# Altium schematic symbol library Titan.SchLib: 58 symbols
Pins are listed as number, name and electrical type; pins without a type are passive.

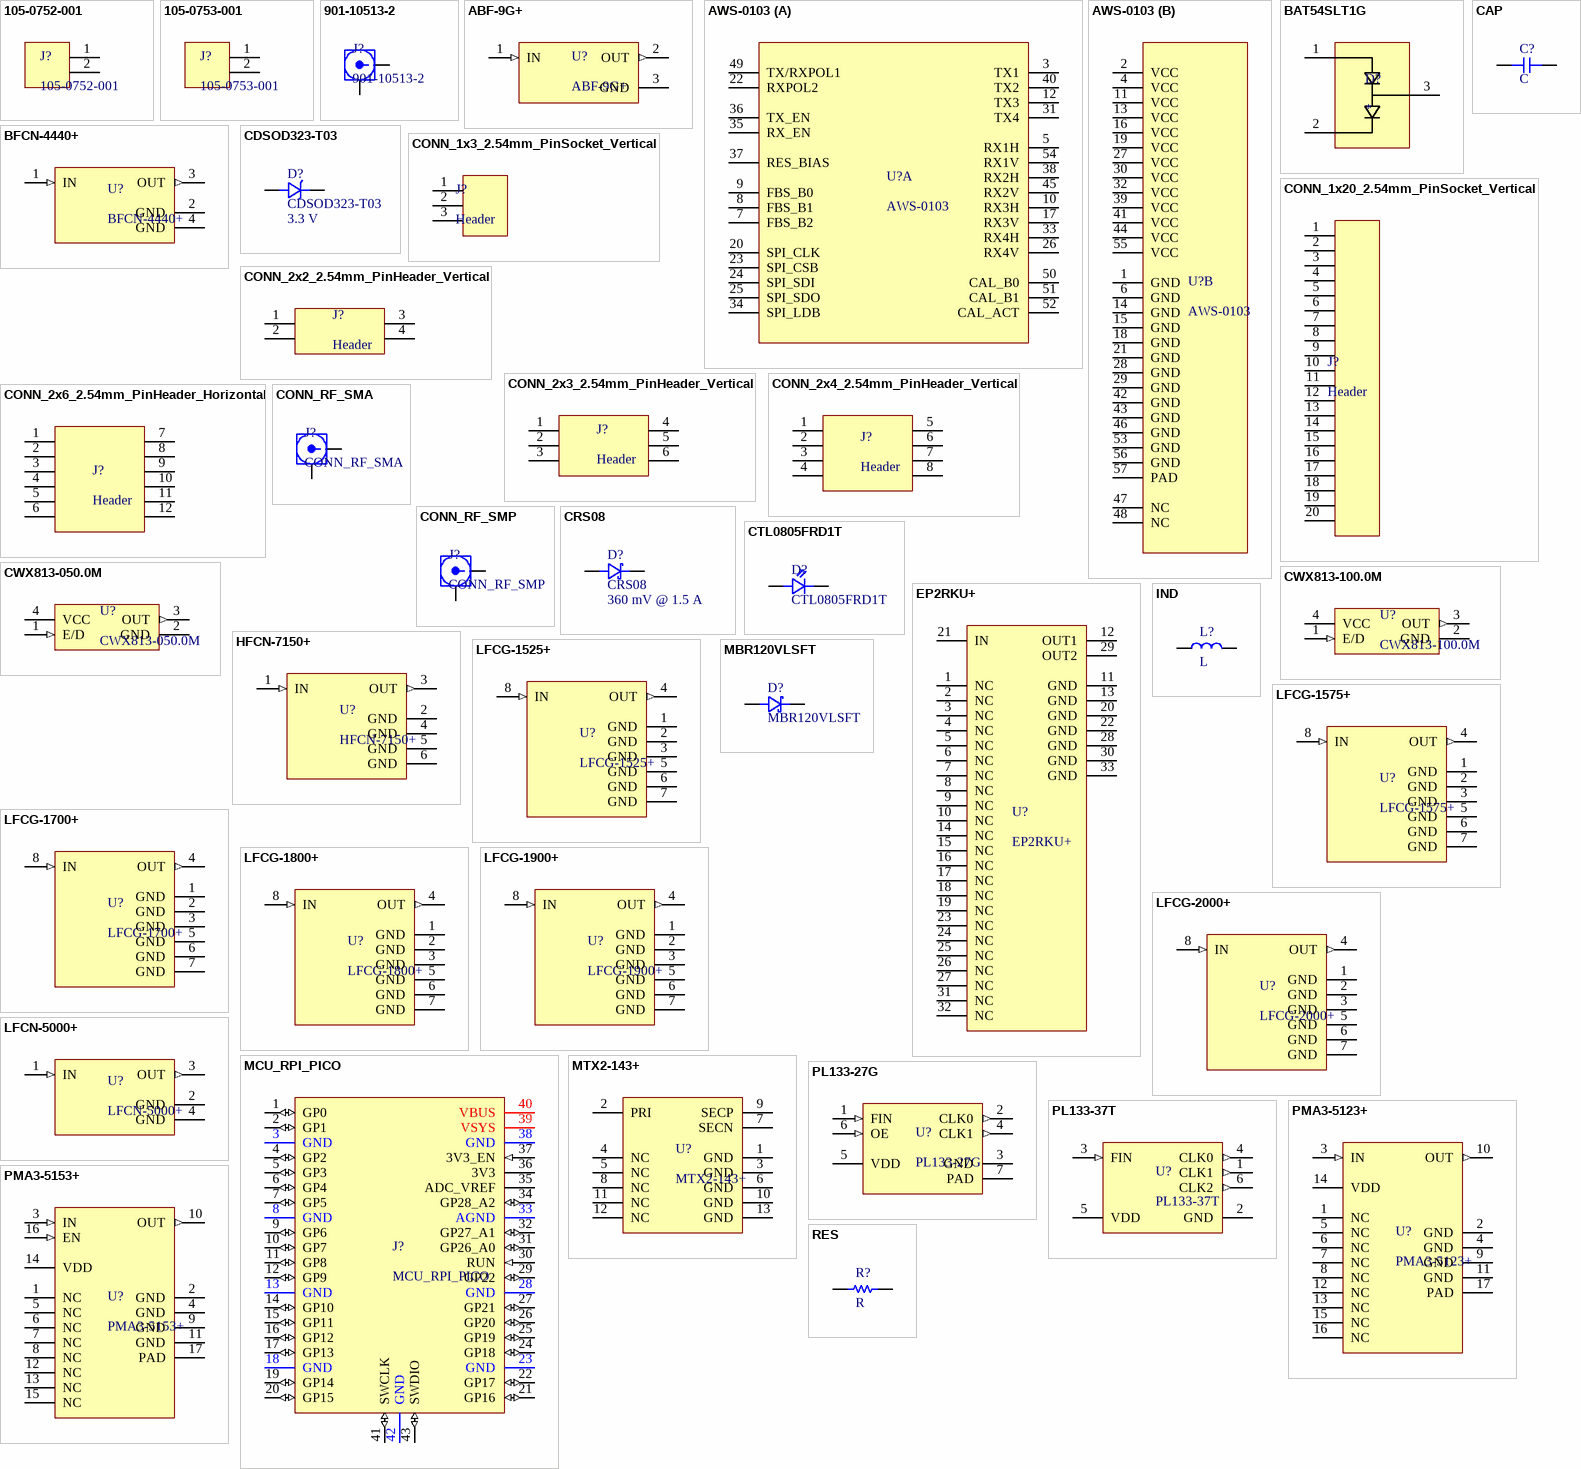
[diagram p0: symbols 105-0752-001 to RES]

## 105-0752-001
designator J?
Banana Jack Connector Standard Tip Solder Red; Manufacturer: Cinch Connectivity Solutions Johnson; Manufacturer Part Number: 105-0752-001
footprint CONN_BANANA_JACK (Banana Jack Connector Standard Tip Solder)
pins: 1 (power), 2 (power)

## 105-0753-001
designator J?
Banana Jack Connector Standard Tip Solder Black; Manufacturer: Cinch Connectivity Solutions Johnson; Manufacturer Part Number: 105-0753-001
footprint CONN_BANANA_JACK (Banana Jack Connector Standard Tip Solder)
pins: 1 (power), 2 (power)

## 901-10513-2
designator J?
SMA PCB End Launch Straight Jack 50 Ohm 0.062 High Frequency; Manufacturer: Amphenol; Maximum Frequency: 26.5 GHz; Manufacturer Part Number: 901-10513-2
footprint 901-10513-2 (SMA PCB End Launch Straight Jack 50 Ohm 0.062 High Frequency)
pins: 1, 2

## ABF-9G+
designator U?
9GHz Center Frequency Band Pass RF Filter (Radio Frequency) 1.6GHz Bandwidth 2.5dB 6-SMD, No Lead; Manufacturer: Mini-Circuits; Manufacturer Part Number: ABF-9G+
footprint PL-764
pins: 1 IN (in), 2 OUT (out), 3 GND (power)

## AWS-0103
designator U?
8.5 - 10.55 GHz X-Band Dual Rx Single Tx Beamformer; Manufacturer: Qorvo; Manufacturer Part Number: AWS-0103
footprint AWS-0103 (8.5 - 10.55 GHz X-Band Dual Rx Single Tx Beamformer)
part A pins: 3 TX1, 5 RX1H, 7 FBS_B2, 8 FBS_B1, 9 FBS_B0, 10 RX3H, 12 TX3, 17 RX3V, 20 SPI_CLK, 22 RXPOL2, 23 SPI_CSB, 24 SPI_SDI, 25 SPI_SDO, 26 RX4V, 31 TX4, 33 RX4H, 34 SPI_LDB, 35 RX_EN, 36 TX_EN, 37 RES_BIAS, 38 RX2H, 40 TX2, 45 RX2V, 49 TX/RXPOL1, 50 CAL_B0, 51 CAL_B1, 52 CAL_ACT, 54 RX1V
part B pins: 1 GND, 2 VCC, 4 VCC, 6 GND, 11 VCC, 13 VCC, 14 GND, 15 GND, 16 VCC, 18 GND, 19 VCC, 21 GND, 27 VCC, 28 GND, 29 GND, 30 VCC, 32 VCC, 39 VCC, 41 VCC, 42 GND, 43 GND, 44 VCC, 46 GND, 47 NC, 48 NC, 53 GND, 55 VCC, 56 GND, 57 PAD

## BAT54SLT1G
designator D?
Diode Array 1 Pair Series Connection 30 V 200mA (DC) Surface Mount TO-236-3, SC-59, SOT-23-3; Manufacturer: onsemi; Manufacturer Part Number: BAT54SLT1G
footprint BAT54SL (SOT23, 3-Leads, Body 2.92x2.37mm, Pitch 0.95mm, IPC Medium Density)
pins: 1, 2, 3

## BFCN-4440+
designator U?
LTCC Band Pass Filter, 4200 - 4700 MHz, 50Ω; Manufacturer: Mini-Circuits; Manufacturer Part Number: BFCN-4440+
footprint PL-137
pins: 1 IN (in), 2 GND (power), 3 OUT (out), 4 GND (power)

## CAP
designator C?, comment C
Capacitor SMD Generic; Manufacturer: *; Manufacturer Part Number: *; Tolerance: *; Voltage Rating: *; Dielectric: *; Package Size: *
pins: 1, 2

## CDSOD323-T03
designator D?  Reverse Standoff Voltage: 3.3 V
TVS Diode 3.3VWM 19VC Surface Mount SOD323; Manufacturer: Bourns Inc.; Breakdown Voltage: 4 V; Maximum Clamping Voltage: 19 V; Manufacturer Part Number: CDSOD323-T03
footprint CDSOD323 (TVS Diode Surface Mount SOD-323)
pins: 1, 2

## CONN_1x3_2.54mm_PinSocket_Vertical
designator J?, comment Header
1x3 2.54mm Vertical Pin Socket; Manufacturer: *; Manufacturer Part Number: *
footprint CONN_1x3_2.54mm_PinSocket_Vertical (1x3 2.54mm Vertical Pin Socket)
pins: 1, 2, 3

## CONN_1x20_2.54mm_PinSocket_Vertical
designator J?, comment Header
1x20 2.54mm Vertical Pin Socket; Manufacturer: *; Manufacturer Part Number: *
footprint CONN_1x20_2.54mm_PinSocket_Vertical (1x20 2.54mm Vertical Pin Socket)
pins: 1, 2, 3, 4, 5, 6, 7, 8, 9, 10, 11, 12, 13, 14, 15, 16, 17, 18, 19, 20

## CONN_2x2_2.54mm_PinHeader_Vertical
designator J?, comment Header
2x2 2.54mm Vertical Pin Header; Manufacturer: *; Manufacturer Part Number: *
footprint CONN_2x2_2.54mm_PinHeader_Vertical (2x2 2.54mm Vertical Pin Header)
pins: 1, 2, 3, 4

## CONN_2x3_2.54mm_PinHeader_Vertical
designator J?, comment Header
2x3 2.54mm Vertical Pin Header; Manufacturer: *; Manufacturer Part Number: *
footprint CONN_2x4_2.54mm_PinHeader_Vertical (2x4 2.54mm Vertical Pin Header)
pins: 1, 2, 3, 4, 5, 6

## CONN_2x4_2.54mm_PinHeader_Vertical
designator J?, comment Header
2x4 2.54mm Vertical Pin Header; Manufacturer: *; Manufacturer Part Number: *
footprint CONN_2x4_2.54mm_PinHeader_Vertical (2x4 2.54mm Vertical Pin Header)
pins: 1, 2, 3, 4, 5, 6, 7, 8

## CONN_2x6_2.54mm_PinHeader_Horizontal
designator J?, comment Header
2x6 2.54mm Horizontal Pin Header; Manufacturer: *; Manufacturer Part Number: *
footprint CONN_2x6_2.54mm_PinHeader_Horizontal (2x6 2.54mm Horizontal Pin Header)
pins: 1, 2, 3, 4, 5, 6, 7, 8, 9, 10, 11, 12

## CONN_RF_SMA
designator J?
Connector RF SMA Generic; Manufacturer: *; Manufacturer Part Number: *; Maximum Frequency: *
pins: 1, 2

## CONN_RF_SMP
designator J?
Connector RF SMP Generic; Manufacturer: *; Manufacturer Part Number: *; Maximum Frequency: *
pins: 1, 2

## CRS08
designator D?  Forward Voltage: 360 mV @ 1.5 A
Schottky Diode 30 V 1.5A Surface Mount S-FLAT (1.6x3.5); Manufacturer: Toshiba Semiconductor and Storage; Manufacturer Part Number: CRS08(TE85L,Q,M); Reverse Voltage: 30 V; Reverse Leakage Current: 1 mA @ 30 V; Current: 1.5 A
footprint CRS08 (SODFL, 2-Leads, Body 1.65x3.50mm, IPC Medium Density)
pins: 1, 2

## CTL0805FRD1T
designator D?
Chip Type LED, 0805, Flat Lens, Red; Manufacturer: Venkel; Manufacturer Part Number: CTL0805FRD1T-CT; Forward Voltage: 1.5 V; Current: 20 mA; Package Size: 0805
footprint CTL0805FRD1T (Chip Diode, 2-Leads, Body 2.00x1.25mm, IPC Medium Density)
pins: 1, 2

## CWX813-050.0M
designator U?
50MHz 5.0x7.0mm Surface Mount CMOS Clock Oscillator; Manufacturer: Connor-Winfield; Frequency Stability: +-25 ppm; Supply Voltage: 3.3 V; Manufacturer Part Number: CWX813-050.0M; Frequency: 50 MHz; Temperature Range: -20C to 70C
footprint CWX8XX (5.0x7.0mm Surface Mount CMOS Clock Oscillator)
pins: 1 E/D (in), 2 GND (power), 3 OUT (out), 4 VCC (power)

## CWX813-100.0M
designator U?
100MHz 5.0x7.0mm Surface Mount CMOS Clock Oscillator; Manufacturer: Connor-Winfield; Frequency Stability: +-25 ppm; Supply Voltage: 3.3 V; Manufacturer Part Number: CWX813-100.0M; Frequency: 100 MHz; Temperature Range: -20C to 70C
footprint CWX8XX (5.0x7.0mm Surface Mount CMOS Clock Oscillator)
pins: 1 E/D (in), 2 GND (power), 3 OUT (out), 4 VCC (power)

## EP2RKU+
designator U?
2 Ways MMIC Power Splitter, DC - 18000 MHz, 50Ω; Manufacturer: Mini-Circuits; Manufacturer Part Number: EP2RKU+
footprint PL-648
pins: 1 NC, 2 NC, 3 NC, 4 NC, 5 NC, 6 NC, 7 NC, 8 NC, 9 NC, 10 NC, 11 GND (power), 12 OUT1, 13 GND (power), 14 NC, 15 NC, 16 NC, 17 NC, 18 NC, 19 NC, 20 GND (power), 21 IN, 22 GND (power), 23 NC, 24 NC, 25 NC, 26 NC, 27 NC, 28 GND (power), 29 OUT2, 30 GND (power), 31 NC, 32 NC, 33 GND (power)

## HFCN-7150+
designator U?
LTCC High Pass Filter, 7900 - 11000 MHz; Manufacturer: Mini-Circuits; Manufacturer Part Number: HFCN-7150+
footprint PL-158
pins: 1 IN (in), 2 GND (power), 3 OUT (out), 4 GND (power), 5 GND (power), 6 GND (power)

## IND
designator L?, comment L
Inductor SMD Generic; Manufacturer: *; Manufacturer Part Number: *; Tolerance: *; Current Rating: *; Core Material: *; Package Size: *
pins: 1, 2

## LFCG-1525+
designator U?
LTCC Low Pass Filter, DC - 1525 MHz, 50Ω; Manufacturer: Mini-Circuits; Manufacturer Part Number: LFCG-1525+
footprint PL-429
pins: 1 GND (power), 2 GND (power), 3 GND (power), 4 OUT (out), 5 GND (power), 6 GND (power), 7 GND (power), 8 IN (in)

## LFCG-1575+
designator U?
LTCC Low Pass Filter, DC - 1575 MHz, 50Ω; Manufacturer: Mini-Circuits; Manufacturer Part Number: LFCG-1575+
footprint PL-429
pins: 1 GND (power), 2 GND (power), 3 GND (power), 4 OUT (out), 5 GND (power), 6 GND (power), 7 GND (power), 8 IN (in)

## LFCG-1700+
designator U?
LTCC Low Pass Filter, DC - 1700 MHz, 50Ω; Manufacturer: Mini-Circuits; Manufacturer Part Number: LFCG-1700+
footprint PL-429
pins: 1 GND (power), 2 GND (power), 3 GND (power), 4 OUT (out), 5 GND (power), 6 GND (power), 7 GND (power), 8 IN (in)

## LFCG-1800+
designator U?
LTCC Low Pass Filter, DC - 1800 MHz, 50Ω; Manufacturer: Mini-Circuits; Manufacturer Part Number: LFCG-1800+
footprint PL-429
pins: 1 GND (power), 2 GND (power), 3 GND (power), 4 OUT (out), 5 GND (power), 6 GND (power), 7 GND (power), 8 IN (in)

## LFCG-1900+
designator U?
LTCC Low Pass Filter, DC - 1900 MHz, 50Ω; Manufacturer: Mini-Circuits; Manufacturer Part Number: LFCG-1900+
footprint PL-429
pins: 1 GND (power), 2 GND (power), 3 GND (power), 4 OUT (out), 5 GND (power), 6 GND (power), 7 GND (power), 8 IN (in)

## LFCG-2000+
designator U?
LTCC Low Pass Filter, DC - 2000 MHz, 50Ω; Manufacturer: Mini-Circuits; Manufacturer Part Number: LFCG-2000+
footprint PL-429
pins: 1 GND (power), 2 GND (power), 3 GND (power), 4 OUT (out), 5 GND (power), 6 GND (power), 7 GND (power), 8 IN (in)

## LFCN-5000+
designator U?
LTCC Low Pass Filter, DC - 5000 MHz, 50Ω; Manufacturer: Mini-Circuits; Manufacturer Part Number: LFCN-5000+
footprint PL-137
pins: 1 IN (in), 2 GND (power), 3 OUT (out), 4 GND (power)

## MBR120VLSFT
designator D?
Schottky Diode 20 V 1A Surface Mount SOD-123FL; Manufacturer: onsemi; Manufacturer Part Number: MBR120VLSFT1G; Reverse Voltage: 20 V; Forward Voltage: 340 mV @ 1 A; Reverse Leakage Current: 600 uA @ 20 V; Current: 1 A
footprint MBR120VLSFT (SODFL, 2-Leads, Body 1.65x3.60mm, IPC Medium Density)
pins: 1, 2

## MCU_RPI_PICO
designator J?
Raspberry Pi Pico
footprint MCU_RPI_PICO (Raspberry Pi Pico)
pins: 1 GP0 (io), 2 GP1 (io), 3 GND (power), 4 GP2 (io), 5 GP3 (io), 6 GP4 (io), 7 GP5 (io), 8 GND (power), 9 GP6 (io), 10 GP7 (io), 11 GP8 (io), 12 GP9 (io), 13 GND (power), 14 GP10 (io), 15 GP11 (io), 16 GP12 (io), 17 GP13 (io), 18 GND (power), 19 GP14 (io), 20 GP15 (io), 21 GP16 (io), 22 GP17 (io), 23 GND (power), 24 GP18 (io), 25 GP19 (io), 26 GP20 (io), 27 GP21 (io), 28 GND (power), 29 GP22 (io), 30 RUN (in), 31 GP26_A0 (io), 32 GP27_A1 (io), 33 AGND (power), 34 GP28_A2 (io), 35 ADC_VREF (power), 36 3V3 (power), 37 3V3_EN (in), 38 GND (power), 39 VSYS (power), 40 VBUS (power), 41 SWCLK (io), 42 GND (power), 43 SWDIO (io)

## MTX2-143+
designator U?
1:2 MMIC Transformer, 5500 - 13500 MHz, 50Ω; Manufacturer: Mini-Circuits; Manufacturer Part Number: MTX2-143+
footprint PL-497
pins: 1 GND (power), 2 PRI, 3 GND (power), 4 NC, 5 NC, 6 GND (power), 7 SECN, 8 NC, 9 SECP, 10 GND (power), 11 NC, 12 NC, 13 GND (power)

## PL133-27G
designator U?
Low-Power, 1.62V to 3.63V, 1:2 Inverting Fanout Buffer IC; Manufacturer: Microchip Technology; Manufacturer Part Number: PL133-27GC-R
footprint PL133-27G (Low-Power, 1.62V to 3.63V, 1:2 Inverting Fanout BufferIC)
pins: 1 FIN (in), 2 CLK0 (out), 3 GND (power), 4 CLK1 (out), 5 VDD (power), 6 OE (in), 7 PAD

## PL133-37T
designator U?
Low-Power, 1.62V to 3.63V, 1 MHz to 150 MHz, Inverting 1:3 Fanout Buffer IC; Manufacturer: Microchip Technology; Manufacturer Part Number: PL133-37TC-R
footprint PL133-37T (Low-Power, 1.62V to 3.63V, 1 MHz to 150 MHz, Inverting 1:3 Fanout Buffer IC)
pins: 1 CLK1 (out), 2 GND (power), 3 FIN (in), 4 CLK0 (out), 5 VDD (power), 6 CLK2 (out)

## PMA3-5123+
designator U?
SMT Low Noise Amplifier, 5.5 - 12.5 GHz, 50Ω; Manufacturer: Mini-Circuits; Manufacturer Part Number: PMA3-5123+
footprint DQ3005
pins: 1 NC, 2 GND (power), 3 IN (in), 4 GND (power), 5 NC, 6 NC, 7 NC, 8 NC, 9 GND (power), 10 OUT (out), 11 GND (power), 12 NC, 13 NC, 14 VDD (power), 15 NC, 16 NC, 17 PAD

## PMA3-5153+
designator U?
SMT Low Noise Amplifier, 5.5 - 15.5 GHz, 50Ω; Manufacturer: Mini-Circuits; Manufacturer Part Number: PMA3-5153+
footprint DQ3005
pins: 1 NC, 2 GND (power), 3 IN (in), 4 GND (power), 5 NC, 6 NC, 7 NC, 8 NC, 9 GND (power), 10 OUT (out), 11 GND (power), 12 NC, 13 NC, 14 VDD (power), 15 NC, 16 EN (in), 17 PAD

## RES
designator R?, comment R
Resistor SMD Generic; Manufacturer: *; Manufacturer Part Number: *; Tolerance: *; Power Rating: *; Package Size: *
pins: 1, 2

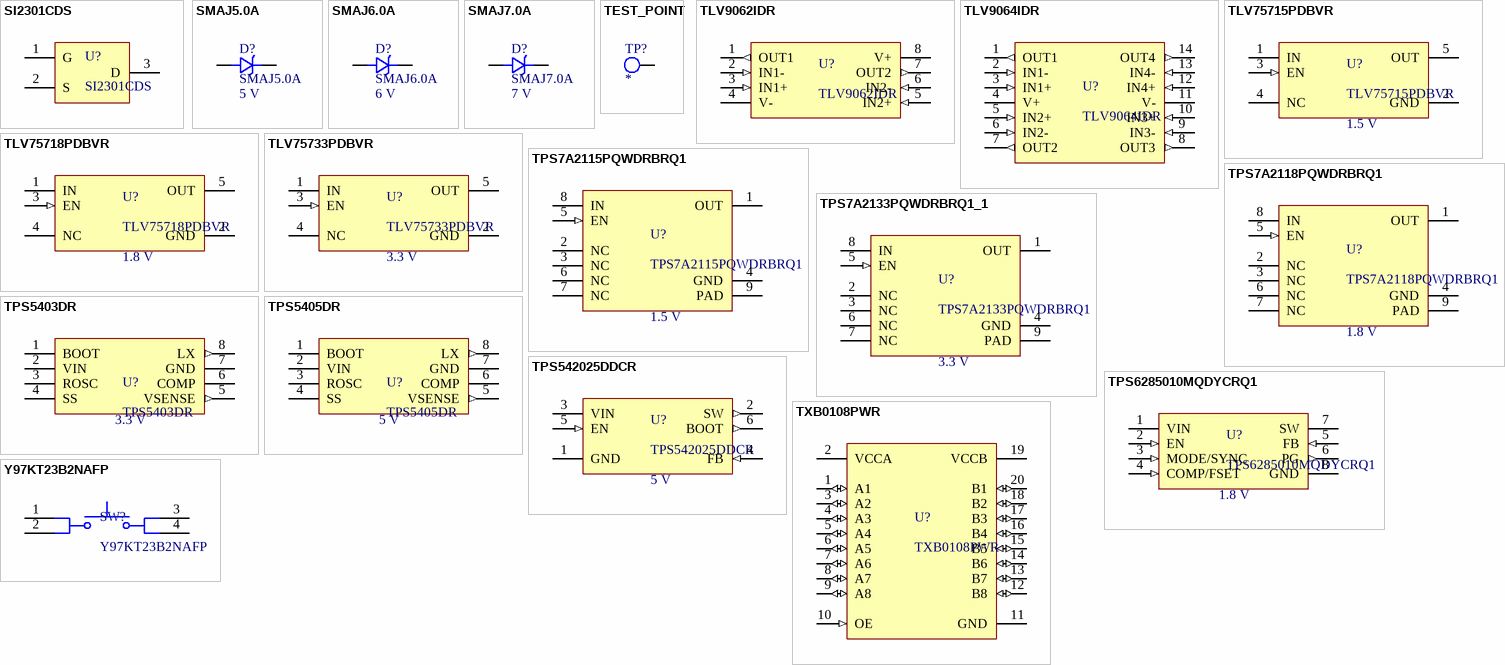
[diagram p1: symbols SI2301CDS to Y97KT23B2NAFP]

## SI2301CDS
designator U?
P-Channel 20 V 3.1A (Tc) 860mW (Ta), 1.6W (Tc) Surface Mount SOT-23-3 (TO-236); Manufacturer: Vishay Siliconix; Manufacturer Part Number: SI2301CDS-T1-GE3
footprint SI2301CDS (SOT23, 3-Leads, Body 2.92x2.37mm, Pitch 0.95mm, IPC Medium Density)
pins: 1 G, 2 S, 3 D

## SMAJ5.0A
designator D?  Reverse Standoff Voltage: 5 V
TVS Diode 5VWM 9.2VC Surface Mount DO-214AC; Manufacturer: Littelfuse Inc.; Breakdown Voltage: 6.40 V; Maximum Clamping Voltage: 9.2 V; Manufacturer Part Number: SMAJ5.0A
footprint SMAJ (TVS Diode Surface Mount DO-214AC)
pins: 1, 2

## SMAJ6.0A
designator D?  Reverse Standoff Voltage: 6 V
TVS Diode 6VWM 10.3VC Surface Mount DO-214AC; Manufacturer: Littelfuse Inc.; Breakdown Voltage: 6.67 V; Maximum Clamping Voltage: 10.3 V; Manufacturer Part Number: SMAJ6.0A
footprint SMAJ (TVS Diode Surface Mount DO-214AC)
pins: 1, 2

## SMAJ7.0A
designator D?  Reverse Standoff Voltage: 7 V
TVS Diode 7VWM 12VC Surface Mount DO-214AC; Manufacturer: Littelfuse Inc.; Breakdown Voltage: 7.78; Maximum Clamping Voltage: 11.2; Manufacturer Part Number: SMAJ7.0A
footprint SMAJ (TVS Diode Surface Mount DO-214AC)
pins: 1, 2

## TEST_POINT
designator TP?
Test Point Generic
footprint TEST_POINT (Test Point Pad)
pins: 1

## TLV9062IDR
designator U?
Dual, 5.5-V, 10-MHz operational amplifier; Manufacturer: Texas Instruments; Manufacturer Part Number: TLV9062IDR
footprint TLV9062IDR (SOIC, 8-Leads, Body 4.90x3.90mm, Pitch 1.27mm, IPC Medium Density)
pins: 1 OUT1 (out), 2 IN1- (in), 3 IN1+ (in), 4 V- (power), 5 IN2+ (in), 6 IN2- (in), 7 OUT2 (out), 8 V+ (power)

## TLV9064IDR
designator U?
Quad, 5.5-V, 10-MHz operational amplifier; Manufacturer: Texas Instruments; Manufacturer Part Number: TLV9064IDR
footprint TLV9064IDR (SOIC, 14-Leads, Body 8.65x3.90mm, Pitch 1.27mm, IPC Medium Density)
pins: 1 OUT1 (out), 2 IN1- (in), 3 IN1+ (in), 4 V+ (power), 5 IN2+ (in), 6 IN2- (in), 7 OUT2 (out), 8 OUT3 (out), 9 IN3- (in), 10 IN3+ (in), 11 V- (power), 12 IN4+ (in), 13 IN4- (in), 14 OUT4 (out)

## TLV75715PDBVR
designator U?  Output Voltage: 1.5 V
IC Linear Regulator 1.5V 1A SOT23-5; Manufacturer: Texas Instruments; Manufacturer Part Number: TLV75715PDBVR; Output Current: 1 A
footprint TLV757XXPDBVR (SOT23, 5-Leads, Body 2.90x2.80mm, Pitch 0.95mm, IPC Medium Density)
pins: 1 IN (power), 2 GND (power), 3 EN (in), 4 NC, 5 OUT (power)

## TLV75718PDBVR
designator U?  Output Voltage: 1.8 V
IC Linear Regulator 1.8V 1A SOT23-5; Manufacturer: Texas Instruments; Manufacturer Part Number: TLV75718PDBVR; Output Current: 1 A
footprint TLV757XXPDBVR (SOT23, 5-Leads, Body 2.90x2.80mm, Pitch 0.95mm, IPC Medium Density)
pins: 1 IN (power), 2 GND (power), 3 EN (in), 4 NC, 5 OUT (power)

## TLV75733PDBVR
designator U?  Output Voltage: 3.3 V
IC Linear Regulator 3.3V 1A SOT23-5; Manufacturer: Texas Instruments; Manufacturer Part Number: TLV75733PDBVR; Output Current: 1 A
footprint TLV757XXPDBVR (SOT23, 5-Leads, Body 2.90x2.80mm, Pitch 0.95mm, IPC Medium Density)
pins: 1 IN (power), 2 GND (power), 3 EN (in), 4 NC, 5 OUT (power)

## TPS7A2115PQWDRBRQ1
designator U?  Output Voltage: 1.5 V
IC Linear Regulator 1.5V 500 mA 8-SON; Manufacturer: Texas Instruments; Output Current: 500 mA; Manufacturer Part Number: TPS7A2115PQWDRBRQ1
footprint TPS7A21XXPQWDRBRQ1 (SON, 8-Leads, Body 3.00x3.00mm, Pitch 0.65mm, Thermal Pad 0.00x0.00mm, IPC Medium Density)
pins: 1 OUT (power), 2 NC, 3 NC, 4 GND (power), 5 EN (in), 6 NC, 7 NC, 8 IN (power), 9 PAD

## TPS7A2118PQWDRBRQ1
designator U?  Output Voltage: 1.8 V
IC Linear Regulator 1.8V 500 mA 8-SON; Manufacturer: Texas Instruments; Output Current: 500 mA; Manufacturer Part Number: TPS7A2118PQWDRBRQ1
footprint TPS7A21XXPQWDRBRQ1 (SON, 8-Leads, Body 3.00x3.00mm, Pitch 0.65mm, Thermal Pad 0.00x0.00mm, IPC Medium Density)
pins: 1 OUT (power), 2 NC, 3 NC, 4 GND (power), 5 EN (in), 6 NC, 7 NC, 8 IN (power), 9 PAD

## TPS7A2133PQWDRBRQ1_1
designator U?, comment TPS7A2133PQWDRBRQ1  Output Voltage: 3.3 V
IC Linear Regulator 3.3V 500 mA 8-SON; Manufacturer: Texas Instruments; Output Current: 500 mA; Manufacturer Part Number: TPS7A2133PQWDRBRQ1
footprint TPS7A21XXPQWDRBRQ1 (SON, 8-Leads, Body 3.00x3.00mm, Pitch 0.65mm, Thermal Pad 0.00x0.00mm, IPC Medium Density)
pins: 1 OUT (power), 2 NC, 3 NC, 4 GND (power), 5 EN (in), 6 NC, 7 NC, 8 IN (power), 9 PAD

## TPS5403DR
designator U?  Output Voltage: 3.3 V
IC Buck Switching Regulator 3.3V 1.7A 8SOIC; Manufacturer: Texas Instruments; Manufacturer Part Number: TPS5403DR; Output Current: 1.7 A
footprint TPS540X (SOIC, 8-Leads, Body 4.91x3.90mm, Pitch 1.27mm, IPC Medium Density)
pins: 1 BOOT, 2 VIN (power), 3 ROSC, 4 SS, 5 VSENSE (out), 6 COMP, 7 GND (power), 8 LX (out)

## TPS5405DR
designator U?  Output Voltage: 5 V
IC Buck Switching Regulator 5V 2A 8SOIC; Manufacturer: Texas Instruments; Manufacturer Part Number: TPS5405DR; Output Current: 2 A
footprint TPS540X (SOIC, 8-Leads, Body 4.91x3.90mm, Pitch 1.27mm, IPC Medium Density)
pins: 1 BOOT, 2 VIN (power), 3 ROSC, 4 SS, 5 VSENSE (out), 6 COMP, 7 GND (power), 8 LX (out)

## TPS542025DDCR
designator U?  Output Voltage: 5 V
IC Buck Switching Regulator 5V 2A SOT-23-6 Thin; Manufacturer: Texas Instruments; Manufacturer Part Number: TPS542025DDCR; Output Current: 2 A
footprint TPS54202XDDCR (SOT23-THIN, 6-Leads, Body 2.90x2.80mm, Pitch 0.95mm, IPC Medium Density)
pins: 1 GND (power), 2 SW (out), 3 VIN (power), 4 FB (in), 5 EN (in), 6 BOOT (out)

## TPS6285010MQDYCRQ1
designator U?  Output Voltage: 1.8 V
IC Buck Switching Regulator 1.8V 1A SOT583; Manufacturer: Texas Instruments; Manufacturer Part Number: TPS6285010MQDYCRQ1; Output Current: 1 A
footprint TPS62850XXXQDYCRQ1 (SOT583)
pins: 1 VIN (power), 2 EN (in), 3 MODE/SYNC (in), 4 COMP/FSET (in), 5 FB (in), 6 PG (out), 7 SW, 8 GND (power)

## TXB0108PWR
designator U?
8-Bit Bidirectional Voltage-Level Translator with Auto-Direction Sensing and ±15kV ESD Protection; Manufacturer: Texas Instruments; Manufacturer Part Number: TXB0108PWR
footprint TXB0108PWR (8-Bit Bidirectional Voltage-Level Translator with Auto-Direction Sensing and ±15kV ESD Protection)
pins: 1 A1 (io), 2 VCCA (power), 3 A2 (io), 4 A3 (io), 5 A4 (io), 6 A5 (io), 7 A6 (io), 8 A7 (io), 9 A8 (io), 10 OE (in), 11 GND (power), 12 B8 (io), 13 B7 (io), 14 B6 (io), 15 B5 (io), 16 B4 (io), 17 B3 (io), 18 B2 (io), 19 VCCB (power), 20 B1 (io)

## Y97KT23B2NAFP
designator SW?
Switch Tactile SPST-NO 0.05A 12V; Manufacturer: C&K; Maximum Voltage: 12 VDC; Maximum Current: 50 mA; Bounce Time: <=5 ms; Contact Resistance: 100 mΩ; Manufacturer Part Number: Y97KT23B2NAFP; Insulation Resistance: 100 MΩ
footprint PTS647 (4.5x4.5mm SMT Tactile Switch)
pins: 1, 2, 3, 4